# EAGLE library part OPA2388 (library shepherd)
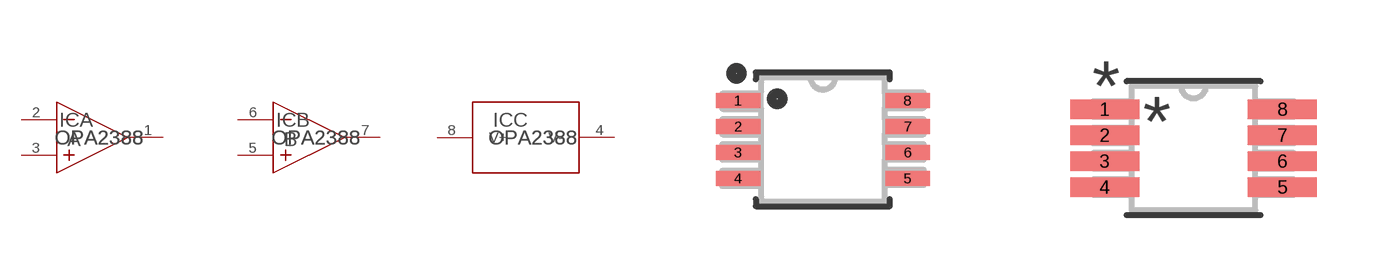
[diagram p15: symbol with the pads of DGK8-L; footprints DGK8-L, DGK8-M]

Designator prefix IC; gates A=OPA2192-Q1DGK_A B=OPA2192-Q1DGK_B C=OPA2192-Q1DGK_C

## OPA2388DGK8_L  [DGK8-L]
1  A:OUT  out
2  A:IN-  in
3  A:IN+  in
4  C:V-  pwr
5  B:IN+  in
6  B:IN-  in
7  B:OUT  out
8  C:V+  pwr

## OPA2388  [DGK8-M]
Pads as for DGK8-L

## Footprint DGK8-L (pad centres in mm)
smd 1.118 x 0.381: 1 -2.121,0.975; 2 -2.121,0.325; 3 -2.121,-0.325; 4 -2.121,-0.975; 5 2.121,-0.975; 6 2.121,-0.325; 7 2.121,0.325; 8 2.121,0.975

## Footprint DGK8-M (pad centres in mm)
smd 1.727 x 0.483: 1 -2.223,0.975; 2 -2.223,0.325; 3 -2.223,-0.325; 4 -2.223,-0.975; 5 2.223,-0.975; 6 2.223,-0.325; 7 2.223,0.325; 8 2.223,0.975